# Altium schematic symbol library U_BQ25895.SchLib: 1 symbol
Pins are listed as number, name and electrical type; pins without a type are passive.

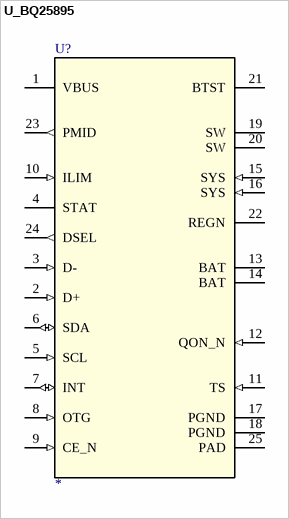
[diagram p0: symbol U_BQ25895]

## U_BQ25895
designator U?
Application_BuildNumber: *
pins: 1 VBUS (power), 2 D+ (in), 3 D- (in), 4 STAT (oc), 5 SCL (in), 6 SDA (io), 7 INT (io), 8 OTG (in), 9 CE_N (in), 10 ILIM (in), 11 TS (in), 12 QON_N (in), 13 BAT (power), 14 BAT (power), 15 SYS (in), 16 SYS (in), 17 PGND (power), 18 PGND (power), 19 SW (power), 20 SW (power), 21 BTST (power), 22 REGN (power), 23 PMID (out), 24 DSEL (out), 25 PAD (power)